# Altium schematic symbol library LCD16x2I2C.SchLib: 1 symbol
Pins are listed as number, name and electrical type; pins without a type are passive.

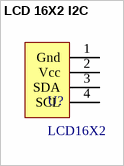
[diagram p0: symbol LCD 16X2 I2C]

## LCD 16X2 I2C
designator U?, comment LCD16X2
LCD 16x2 with I2C
footprint LCD16x2I2C
pins: 1 Gnd, 2 Vcc, 3 SDA, 4 SCL